# EAGLE library part XRP6272 (library vreg-linear)
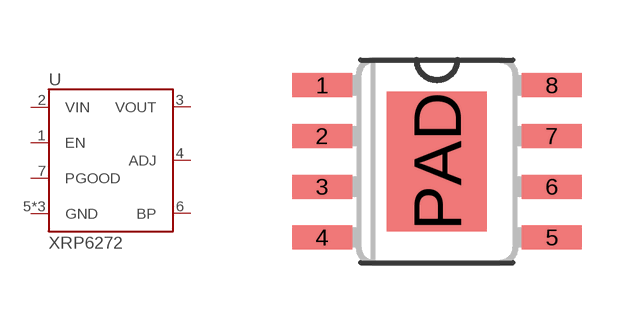
[diagram p1: symbol with the pads of HSOICN8; footprint HSOICN8]

Designator prefix U

## XRP6272 (DIGIKEY: 1016-1746-1-ND)  [HSOICN8]
1  EN
2  VIN
3  VOUT
4  ADJ
5  GND
6  BP
7  PGOOD
8  GND
PAD  GND

## Footprint HSOICN8 (pad centres in mm)
smd 1.5 x 0.6: 1 -2.873,1.905; 2 -2.873,0.635; 3 -2.873,-0.635; 4 -2.873,-1.905; 5 2.873,-1.905; 6 2.873,-0.635; 7 2.873,0.635; 8 2.873,1.905
smd 2.5 x 3.5: PAD 0,0